# Altium schematic symbol library 691 320 510 0xx.SchLib: 6 symbols
Pins are listed as number, name and electrical type; pins without a type are passive.

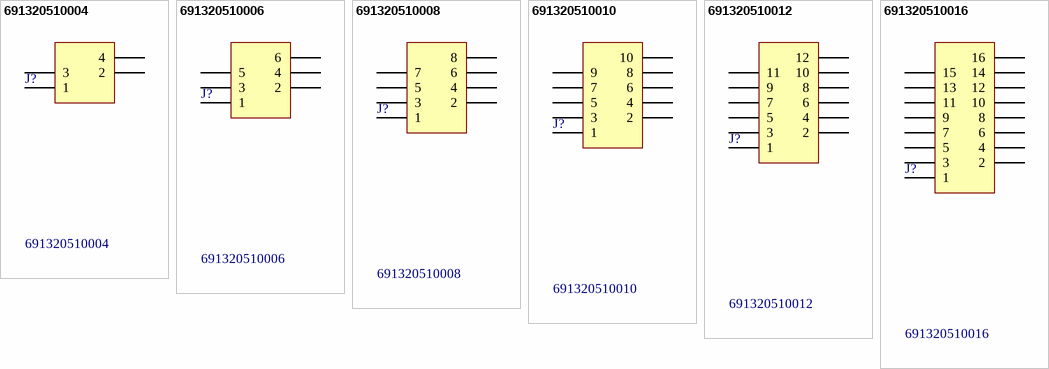
[diagram p0: symbols 691320510004 to 691320510016]

## 691320510004
designator J?
WR-TBL Terminal Blocks Serie 3205 - 5.08 mm with Flanges & Nut Type; Manufacturer: Würth Elektronik eiSos GmbH; ComponentLink1 Description: Manufacturer; ComponentLink2 Description: Datasheet; NoPins: 04; Created Date: 09 April 2014; partNo: 691320510004; ComponentLink1URL: http://www.we-online.com; ComponentLink2URL: http://katalog.we-online.de/em/datasheet/6913205100xx.pdf; Created by: Karrer Zheng; Value: 691320510004
footprint 691320510004 (5,08mm - PCB - Dual row - Staggered - Horizontal - Flanges - 04p)
pins: 1, 2, 3, 4

## 691320510006
designator J?
WR-TBL Terminal Blocks Serie 3205 - 5.08 mm with Flanges & Nut Type; Manufacturer: Würth Elektronik eiSos GmbH; ComponentLink1 Description: Manufacturer; ComponentLink2 Description: Datasheet; NoPins: 06; Created Date: 09 April 2014; partNo: 691320510006; ComponentLink1URL: http://www.we-online.com; ComponentLink2URL: http://katalog.we-online.de/em/datasheet/6913205100xx.pdf; Created by: Karrer Zheng; Value: 691320510006
footprint 691320510006 (5,08mm - PCB - Dual row - Staggered - Horizontal - Flanges - 06p)
pins: 1, 2, 3, 4, 5, 6

## 691320510008
designator J?
WR-TBL Terminal Blocks Serie 3205 - 5.08 mm with Flanges & Nut Type; Manufacturer: Würth Elektronik eiSos GmbH; ComponentLink1 Description: Manufacturer; ComponentLink2 Description: Datasheet; NoPins: 08; Created Date: 09 April 2014; partNo: 691320510008; ComponentLink1URL: http://www.we-online.com; ComponentLink2URL: http://katalog.we-online.de/em/datasheet/6913205100xx.pdf; Created by: Karrer Zheng; Value: 691320510008
footprint 691320510008 (5,08mm - PCB - Dual row - Staggered - Horizontal - Flanges - 08p)
pins: 1, 2, 3, 4, 5, 6, 7, 8

## 691320510010
designator J?
WR-TBL Terminal Blocks Serie 3205 - 5.08 mm with Flanges & Nut Type; Manufacturer: Würth Elektronik eiSos GmbH; ComponentLink1 Description: Manufacturer; ComponentLink2 Description: Datasheet; NoPins: 10; Created Date: 09 April 2014; partNo: 691320510010; ComponentLink1URL: http://www.we-online.com; ComponentLink2URL: http://katalog.we-online.de/em/datasheet/6913205100xx.pdf; Created by: Karrer Zheng; Value: 691320510010
footprint 691320510010 (5,08mm - PCB - Dual row - Staggered - Horizontal - Flanges - 10p)
pins: 1, 2, 3, 4, 5, 6, 7, 8, 9, 10

## 691320510012
designator J?
WR-TBL Terminal Blocks Serie 3205 - 5.08 mm with Flanges & Nut Type; Manufacturer: Würth Elektronik eiSos GmbH; ComponentLink1 Description: Manufacturer; ComponentLink2 Description: Datasheet; NoPins: 12; Created Date: 09 April 2014; partNo: 691320510012; ComponentLink1URL: http://www.we-online.com; ComponentLink2URL: http://katalog.we-online.de/em/datasheet/6913205100xx.pdf; Created by: Karrer Zheng; Value: 691320510012
footprint 691320510012 (5,08mm - PCB - Dual row - Staggered - Horizontal - Flanges - 12p)
pins: 1, 2, 3, 4, 5, 6, 7, 8, 9, 10, 11, 12

## 691320510016
designator J?
WR-TBL Terminal Blocks Serie 3205 - 5.08 mm with Flanges & Nut Type; Manufacturer: Würth Elektronik eiSos GmbH; ComponentLink1 Description: Manufacturer; ComponentLink2 Description: Datasheet; NoPins: 16; Created Date: 09 April 2014; partNo: 691320510016; ComponentLink1URL: http://www.we-online.com; ComponentLink2URL: http://katalog.we-online.de/em/datasheet/6913205100xx.pdf; Created by: Karrer Zheng; Value: 691320510016
footprint 691320510016 (5,08mm - PCB - Dual row - Staggered - Horizontal - Flanges - 16p)
pins: 1, 2, 3, 4, 5, 6, 7, 8, 9, 10, 11, 12, 13, 14, 15, 16